# Altium schematic symbol library Con3x6.Schlib: 1 symbol
Pins are listed as number, name and electrical type; pins without a type are passive.

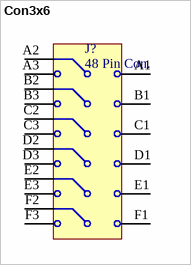
[diagram p0: symbol Con3x6]

## Con3x6
designator J?, comment 48 Pin Con.
48 Pin Connector, TH Rt angle, Sealed
pins: A1, A2, A3, B1, B2, B3, C1, C2, C3, D1, D2, D3, E1, E2, E3, F1, F2, F3